# EAGLE library part ESP32-S3-WROOM-1-N16R2 (library ESP32-S3-WROOM-1-N16R2)
Check availability <https://pricing.snapeda.com/parts/ESP32-S3-WROOM-1-N16R2/Espressif%20Systems/view-part?ref=eda>
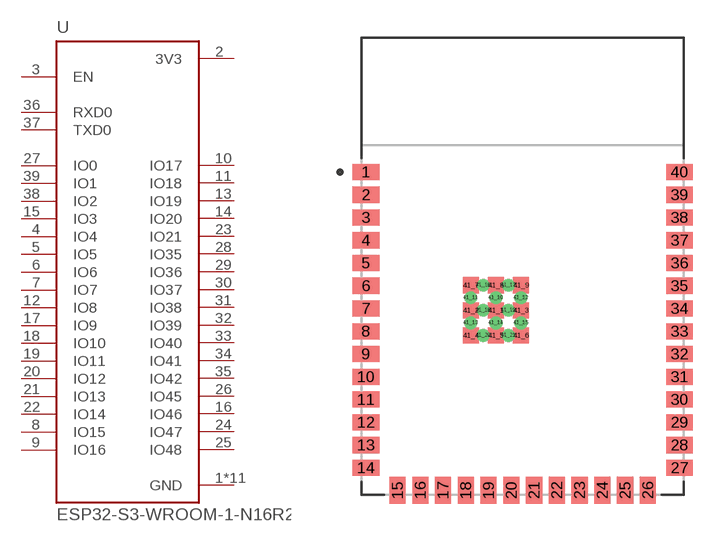
[diagram p0: symbol with the pads of XCVR_ESP32-S3-WROOM-1-N16R2; footprint XCVR_ESP32-S3-WROOM-1-N16R2]

Designator prefix U

## ESP32-S3-WROOM-1-N16R2 (Availability: In Stock; Check_prices: https://www.snapeda.com/parts/ESP32-S3-WROOM-1-N16R2/Espressif+Systems/view-part/?ref=eda; Description: Bluetooth, WiFi 802.11b/g/n, Bluetooth v5.0 Transceiver Module 2.4GHz PCB Trace Surface Mount; MF: Espressif Systems; MP: ESP32-S3-WROOM-1-N16R2; Package: NON STANDARD Espressif Systems; Price: None; Purchase-URL: https://www.snapeda.com/api/url_track_click_mouser/?unipart_id=11099128&manufacturer=Espressif Systems&part_name=ESP32-S3-WROOM-1-N16R2&search_term=None; SnapEDA_Link: https://www.snapeda.com/parts/ESP32-S3-WROOM-1-N16R2/Espressif+Systems/view-part/?ref=snap)  [XCVR_ESP32-S3-WROOM-1-N16R2]
1  GND  pwr
2  3V3  pwr
3  EN  in
4  IO4
5  IO5
6  IO6
7  IO7
8  IO15
9  IO16
10  IO17
11  IO18
12  IO8
13  IO19
14  IO20
15  IO3
16  IO46
17  IO9
18  IO10
19  IO11
20  IO12
21  IO13
22  IO14
23  IO21
24  IO47
25  IO48
26  IO45
27  IO0
28  IO35
29  IO36
30  IO37
31  IO38
32  IO39
33  IO40
34  IO41
35  IO42
36  RXD0
37  TXD0
38  IO2
39  IO1
40  GND  pwr
41_1  GND  pwr
41_2  GND  pwr
41_3  GND  pwr
41_4  GND  pwr
41_5  GND  pwr
41_6  GND  pwr
41_7  GND  pwr
41_8  GND  pwr
41_9  GND  pwr

## Footprint XCVR_ESP32-S3-WROOM-1-N16R2 (pad centres in mm)
smd 1.5 x 0.9: 1 -8.75,5.26; 2 -8.75,3.99; 3 -8.75,2.72; 4 -8.75,1.45; 5 -8.75,0.18; 6 -8.75,-1.09; 7 -8.75,-2.36; 8 -8.75,-3.63; 9 -8.75,-4.9; 10 -8.75,-6.17; 11 -8.75,-7.44; 12 -8.75,-8.71; 13 -8.75,-9.98; 14 -8.75,-11.25; 27 8.75,-11.25; 28 8.75,-9.98; 29 8.75,-8.71; 30 8.75,-7.44; 31 8.75,-6.17; 32 8.75,-4.9; 33 8.75,-3.63; 34 8.75,-2.36; 35 8.75,-1.09; 36 8.75,0.18; 37 8.75,1.45; 38 8.75,2.72; 39 8.75,3.99; 40 8.75,5.26
smd 0.9 x 1.5: 15 -6.985,-12.5; 16 -5.715,-12.5; 17 -4.445,-12.5; 18 -3.175,-12.5; 19 -1.905,-12.5; 20 -0.635,-12.5; 21 0.635,-12.5; 22 1.905,-12.5; 23 3.175,-12.5; 24 4.445,-12.5; 25 5.715,-12.5; 26 6.985,-12.5
smd 0.9 x 0.9: 41_1 -1.5,-2.46; 41_2 -2.9,-2.46; 41_3 -0.1,-2.46; 41_4 -2.9,-3.86; 41_5 -1.5,-3.86; 41_6 -0.1,-3.86; 41_7 -2.9,-1.06; 41_8 -1.5,-1.06; 41_9 -0.1,-1.06
drill 0.2 pad 0.4: 41_10 -1.5,-1.76; 41_11 -2.9,-1.76; 41_12 -0.1,-1.76; 41_13 -2.9,-3.16; 41_14 -1.5,-3.16; 41_15 -0.1,-3.16; 41_16 -2.2,-1.06; 41_17 -0.8,-1.06; 41_18 -2.2,-2.46; 41_19 -0.8,-2.46; 41_20 -2.2,-3.86; 41_21 -0.8,-3.86